# EAGLE library part TB6612_BREAKOUT (library adafruit_breakout_boards)
TB6612 motor driver breakout board - adafruit https://learn.adafruit.com/adafruit-tb6612-h-bridge-dc-stepper-motor-driver-breakout/overview
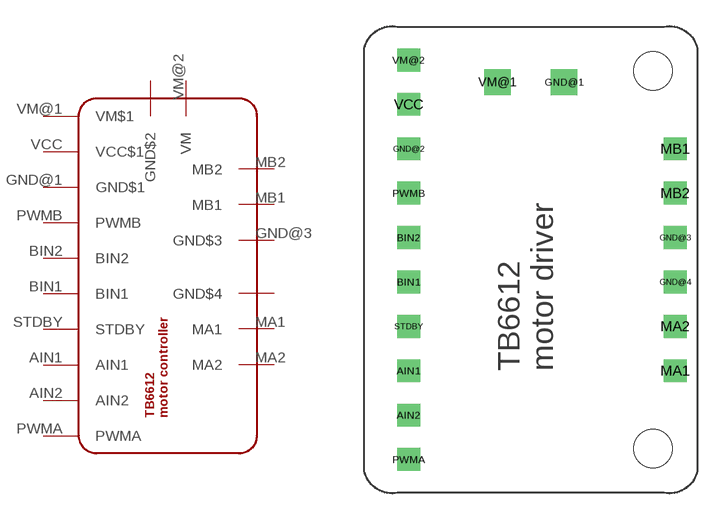
[diagram p1: symbol with the pads of TB6612_BREAKOUT; footprint TB6612_BREAKOUT]

Designator prefix -

## TB6612_BREAKOUT  [TB6612_BREAKOUT]
AIN1  AIN1
AIN2  AIN2
BIN1  BIN1
BIN2  BIN2
GND@1  GND$1  in
GND@2  GND$2  in
GND@3  GND$3  in
GND@4  GND$4  in
MA1  MA1
MA2  MA2
MB1  MB1
MB2  MB2
PWMA  PWMA
PWMB  PWMB
STDBY  STDBY
VCC  VCC$1  in
VM@1  VM$1  in
VM@2  VM

## Footprint TB6612_BREAKOUT (pad centres in mm)
drill 0.8 square: AIN1 -6.985,-6.35; AIN2 -6.985,-8.89; BIN1 -6.985,-1.27; BIN2 -6.985,1.27; GND@2 -6.985,6.35; GND@3 8.255,1.27; GND@4 8.255,-1.27; MA1 8.255,-6.35; MA2 8.255,-3.81; MB1 8.255,6.35; MB2 8.255,3.81; PWMA -6.985,-11.43; PWMB -6.985,3.81; STDBY -6.985,-3.81; VCC -6.985,8.89; VM@2 -6.985,11.43
drill 1 square: GND@1 1.905,10.16; VM@1 -1.905,10.16
hole 2.2 at 6.985,10.795
hole 2.2 at 6.985,-10.795